# Altium footprint library PCB - HEADERS - Samtec - PHT.PcbLib: 7 footprints
Each footprint in its own frame and in the unit in brackets; x right, y up, seen from the top. Pads: shape width x height; smd on the part's side, far side on the other; paste and mask are expansions set on the pad; w line width, h text height; cw(c..) or ccw(c..) is an arc to the next point about the centre after c.
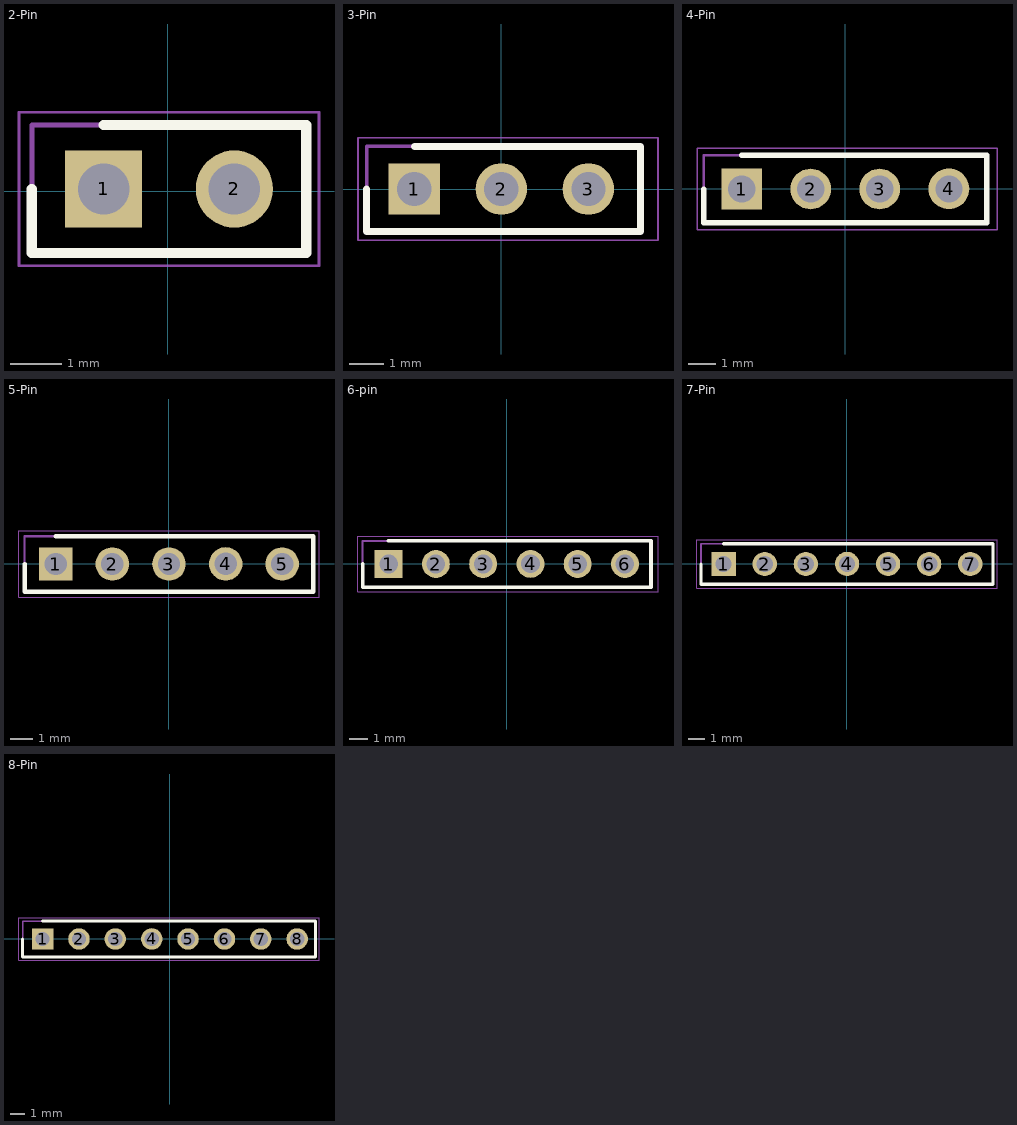
[diagram p0: the footprints below, top view; thin cyan lines are the x and y axes]

## 2-Pin [mm]
pads (2):
  rect 1.5x1.5 hole 1: 1(-1.247,0.042)
  round 1.5 hole 1: 2(1.293,0.042)
Top Overlay:
  lines w0.2: -2.642,0.042 -2.642,-1.203 2.688,-1.203 2.688,1.287 -1.247,1.287
Mechanical 13:
  lines w0.1: -2.642,-1.203 2.688,-1.203 2.688,1.287 -2.642,1.287 -2.642,-1.203
Mechanical 15:
  lines w0.05: -2.892,-1.453 2.938,-1.453 2.938,1.537 -2.892,1.537 -2.892,-1.453
3D body "PHT-102-01-L-S.stp": height 8.38, standoff -3.1, extent -2.54,-1.245 2.54,1.245

## 3-Pin [mm]
pads (3):
  rect 1.5x1.5 hole 1: 1(-2.54,0)
  round 1.5 hole 1: 2(0,0) 3(2.54,0)
Top Overlay:
  lines w0.2: -3.935,0 -3.935,-1.245 4.064,-1.245 4.064,1.245 -2.54,1.245
Mechanical 13:
  lines w0.1: -3.935,-1.245 -3.935,1.245 4.064,1.245 4.064,-1.245 -3.935,-1.245
Mechanical 15:
  lines w0.05: -4.185,-1.495 -4.185,1.495 4.572,1.495 4.572,-1.495 -4.185,-1.495
3D body "PHT-103-01-S-S.stp": height 8.38, standoff -3.1, extent -3.81,-1.245 3.81,1.245

## 4-Pin [mm]
pads (4):
  rect 1.5x1.5 hole 1: 1(-3.814,-0.002)
  round 1.5 hole 1: 2(-1.274,-0.002) 3(1.266,-0.002) 4(3.814,0.002)
Top Overlay:
  lines w0.2: -5.209,-0.002 -5.209,-1.247 5.203,-1.247 5.203,1.243 -3.814,1.243
Mechanical 13:
  lines w0.1: -5.209,-1.247 5.203,-1.247 5.203,1.243 -5.209,1.243 -5.209,-1.247
Mechanical 15:
  lines w0.05: -5.459,-1.497 5.584,-1.497 5.584,1.493 -5.459,1.493 -5.459,-1.497
3D body "PHT-104-01-L-S.stp": height 8.38, standoff -3.1, extent -5.084,-1.247 5.076,1.242

## 5-Pin [mm]
pads (5):
  rect 1.5x1.5 hole 1: 1(-5.08,-0.002)
  round 1.5 hole 1: 2(-2.54,-0.002) 3(0,-0.002) 4(2.547,0.002) 5(5.08,-0.002)
Top Overlay:
  lines w0.2: -6.475,-0.002 -6.475,-1.247 6.477,-1.247 6.477,1.243 -5.08,1.243
Mechanical 13:
  lines w0.1: -6.475,-1.247 -6.475,1.243 6.477,1.243 6.477,-1.247 -6.475,-1.247
Mechanical 15:
  lines w0.05: -6.725,-1.497 -6.725,1.493 6.731,1.493 6.731,-1.497 -6.725,-1.497
3D body "PHT-105-01-L-S.stp": height 8.38, standoff -3.1, extent -6.35,-1.247 6.35,1.242

## 6-pin [mm]
pads (6):
  rect 1.5x1.5 hole 1: 1(-6.35,-0.002)
  round 1.5 hole 1: 2(-3.81,-0.002) 3(-1.27,-0.002) 4(1.277,0.002) 5(3.81,-0.002) 6(6.35,-0.002)
Top Overlay:
  lines w0.2: -7.745,-0.002 -7.745,-1.247 7.747,-1.247 7.747,1.243 -6.35,1.243
Mechanical 13:
  lines w0.1: -7.745,-1.247 7.747,-1.247 7.747,1.243 -7.745,1.243 -7.745,-1.247
Mechanical 15:
  lines w0.05: -7.995,-1.497 8.128,-1.497 8.128,1.493 -7.995,1.493 -7.995,-1.497
3D body "PHT-106-01-L-S.stp": height 8.38, standoff -3.1, extent -7.62,-1.245 7.62,1.245

## 7-Pin [mm]
pads (7):
  rect 1.5x1.5 hole 1: 1(-7.62,-0.002)
  round 1.5 hole 1: 2(-5.08,-0.002) 3(-2.54,-0.002) 4(0.007,0.002) 5(2.54,-0.002) 6(5.08,-0.002) 7(7.62,-0.002)
Top Overlay:
  lines w0.2: -9.015,-0.002 -9.015,-1.247 9.017,-1.247 9.017,1.243 -7.62,1.243
Mechanical 13:
  lines w0.1: -9.015,-1.247 9.017,-1.247 9.017,1.243 -9.015,1.243 -9.015,-1.247
Mechanical 15:
  lines w0.05: -9.265,-1.497 9.271,-1.497 9.271,1.493 -9.265,1.493 -9.265,-1.497
3D body "PHT-107-01-L-S.stp": height 8.38, standoff -3.1, extent -8.883,-1.242 8.897,1.247

## 8-Pin [mm]
pads (8):
  rect 1.5x1.5 hole 1: 1(-8.89,-0.002)
  round 1.5 hole 1: 2(-6.35,-0.002) 3(-3.81,-0.002) 4(-1.263,0.002) 5(1.27,-0.002) 6(3.81,-0.002) 7(6.35,-0.002) 8(8.89,-0.002)
Top Overlay:
  lines w0.2: -10.285,-0.002 -10.285,-1.247 10.16,-1.247 10.16,1.243 -8.89,1.243
Mechanical 13:
  lines w0.1: -10.285,-1.247 -10.285,1.243 10.16,1.243 10.16,-1.247 -10.285,-1.247
Mechanical 15:
  lines w0.05: -10.535,-1.497 -10.535,1.493 10.414,1.493 10.414,-1.497 -10.535,-1.497
3D body "PHT-108-01-L-S.stp": height 8.38, standoff -3.1, extent -10.16,-1.245 10.16,1.245